# Altium footprint library accelerometer.PcbLib: 2 footprints
Each footprint in its own frame and in the unit in brackets; x right, y up, seen from the top. Pads: shape width x height; smd on the part's side, far side on the other; paste and mask are expansions set on the pad; w line width, h text height; cw(c..) or ccw(c..) is an arc to the next point about the centre after c.
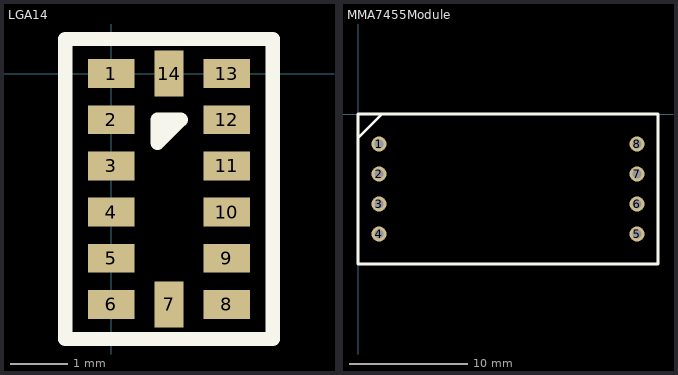
[diagram p0: the footprints below, top view; thin cyan lines are the x and y axes]

## LGA14 [mm]
pads (14):
  rect 0.8x0.5 smd: 1(0,0) 2(0,-0.8) 3(0,-1.6) 4(0,-2.4) 5(0,-3.2) 6(0,-4) 8(2,-4) 9(2,-3.2) 10(2,-2.4) 11(2,-1.6) 12(2,-0.8) 13(2,0)
  rect 0.5x0.8 smd: 7(1,-4) 14(1,0)
Top Overlay:
  lines w0.25: -0.8,-4.6 2.8,-4.6 2.8,0.6 -0.8,0.6 -0.8,-4.6 ; 0.8,-1.2 1.2,-0.8 0.8,-0.8 0.8,-1.2

## MMA7455Module [mil]
height 10
pads (8):
  round 50 hole 30: 1(70,-100) 2(70,-200) 3(70,-300) 4(70,-400) 5(930,-400) 6(930,-300) 7(930,-200) 8(930,-100)
Top Overlay:
  lines w10: 0,-80 80,0 ; 0,-500 1000,-500 1000,0 0,0 0,-500